# EAGLE library part PCA9515ADP (library PCA3515)
I2C-bus repeater,TSSOP8
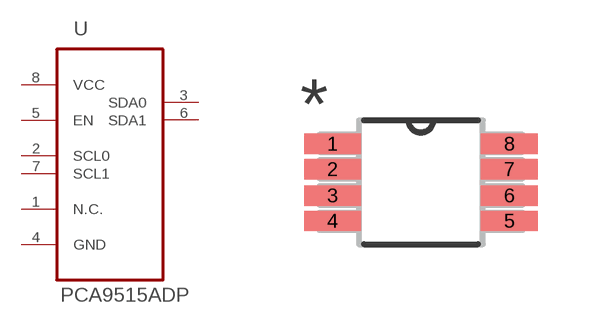
[diagram p0: symbol with the pads of SOP65P490X110-8N; footprint SOP65P490X110-8N]

Designator prefix U

## PCA9515ADP (MPN: PCA9515ADP; OC_FARNELL: 2212062; OC_NEWARK: 55W4305; PACKAGE: TSSOP-8; SUPPLIER: NXP)  [SOP65P490X110-8N]
1  N.C.  nc
2  SCL0
3  SDA0
4  GND  pas
5  EN  in
6  SDA1
7  SCL1
8  VCC  pwr

## Footprint SOP65P490X110-8N (pad centres in mm)
smd 1.422 x 0.508: 1 -2.21,0.965; 2 -2.21,0.33; 3 -2.21,-0.33; 4 -2.21,-0.965; 5 2.21,-0.965; 6 2.21,-0.33; 7 2.21,0.33; 8 2.21,0.965